# Altium footprint library PcbLib_Spectrum_Analyzer.PcbLib: 18 footprints (part 1 of 2)
Each footprint in its own frame and in the unit in brackets; x right, y up, seen from the top. Pads: shape width x height; smd on the part's side, far side on the other; paste and mask are expansions set on the pad; w line width, h text height; cw(c..) or ccw(c..) is an arc to the next point about the centre after c.
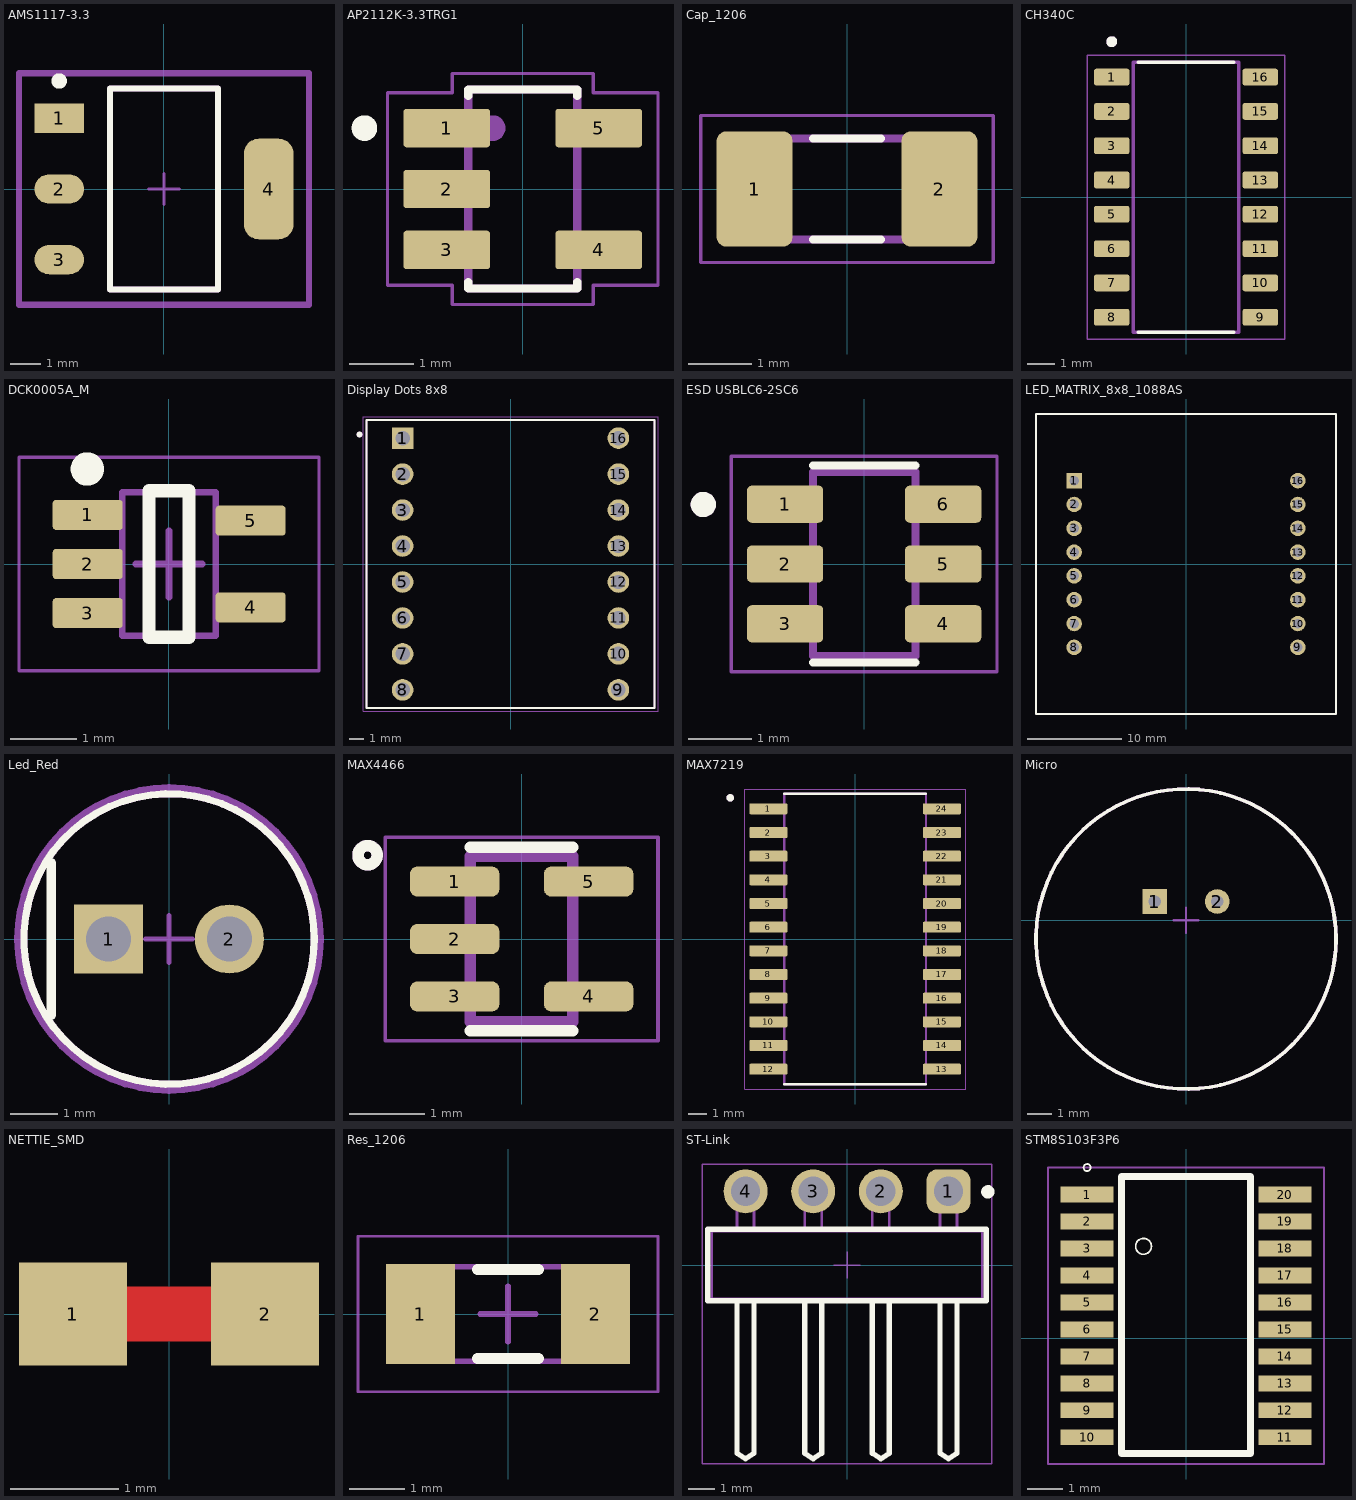
[diagram p0: the footprints below, top view; thin cyan lines are the x and y axes]

## AMS1117-3.3 [mm]
pads (4):
  rect 1.604x0.952 smd paste+0 mask+0: 1(-3.395,2.29)
  rrect100% 1.604x0.952 smd paste+0 mask+0: 2(-3.395,0) 3(-3.395,-2.29)
  rrect59% 1.604x3.262 smd paste+0 mask+0: 4(3.395,0)
Top Overlay:
  circle w0.25: c-3.395,3.5 r0.125
  lines w0.2: -1.753,-3.253 1.753,-3.253 1.753,3.253 -1.753,3.253 -1.753,-3.253
Top 3D Body:
  lines w0.2: -1.753,-3.253 1.753,-3.253 1.753,3.253 -1.753,3.253 -1.753,-3.253
Board:
  lines w0.2: -4.697,-3.752 4.697,-3.752 4.697,3.752 -4.697,3.752 -4.697,-3.752
Top Assembly:
  lines w0.2: -4.697,-3.752 4.697,-3.752 4.697,3.752 -4.697,3.752 -4.697,-3.752
  text ".Designator" at 0,0.188 h1
Top Component Center:
  lines w0.1: -0.5,0 0.5,0 ; 0,-0.5 0,0.5
3D body "IC_Advanced_Monolithic_Systems_AMS1117-3_3_eec.STEP": height 0.25, standoff 0, extent -4.697,-3.752 4.697,3.752

## AP2112K-3.3TRG1 [mm]
pads (5):
  rrect15% 1.35x0.6 smd: 1(-1.185,0.95) 2(-1.185,0) 3(-1.185,-0.95) 4(1.185,-0.95) 5(1.185,0.95)
Top Overlay:
  circle w0.2: c-2.469,0.95 r0.1
  lines w0.127: -0.85,-1.45 -0.85,-1.55 0.85,-1.55 0.85,-1.45 ; -0.85,1.45 -0.85,1.55 0.85,1.55 0.85,1.45
Mechanical 13:
  circle w0.2: c-0.469,0.95 r0.1
  lines w0.127: -0.85,-1.55 0.85,-1.55 0.85,1.55 -0.85,1.55 -0.85,-1.55
Mechanical 15:
  lines w0.05: -2.11,-1.5 -2.11,1.5 -1.1,1.5 -1.1,1.8 1.1,1.8 1.1,1.5 2.11,1.5 2.11,-1.5 1.1,-1.5 1.1,-1.8 -1.1,-1.8 -1.1,-1.5 -2.11,-1.5
3D body "step_temp.STEP": height 1.4, standoff 0, extent -1.5,-1.4 1.5,1.4

## Cap_1206 [mm]
pads (2):
  rrect25% 1.2x1.82 smd: 1(-1.46,0) 2(1.46,0)
Top Overlay:
  lines w0.127: -0.54,-0.8 0.54,-0.8 ; -0.54,0.8 0.54,0.8
Mechanical 13:
  lines w0.127: -1.6,-0.8 1.6,-0.8 1.6,0.8 -1.6,0.8 -1.6,-0.8
Mechanical 15:
  lines w0.05: -2.31,-1.16 2.31,-1.16 2.31,1.16 -2.31,1.16 -2.31,-1.16
3D body "step_temp.STEP": height 1.8, standoff 0, extent -1.6,-0.8 1.6,0.8

## CH340C [mm]
pads (16):
  rrect25% 1.31x0.62 smd: 1(-2.75,4.445) 2(-2.75,3.175) 3(-2.75,1.905) 4(-2.75,0.635) 5(-2.75,-0.635) 6(-2.75,-1.905) 7(-2.75,-3.175) 8(-2.75,-4.445) 9(2.75,-4.445) 10(2.75,-3.175) 11(2.75,-1.905) 12(2.75,-0.635) 13(2.75,0.635) 14(2.75,1.905) 15(2.75,3.175) 16(2.75,4.445)
Top Overlay:
  circle w0.2: c-2.75,5.755 r0.1
  lines w0.127: -1.775,-5 1.775,-5 -1.775,-5 ; -1.775,5 1.775,5 -1.775,5
Mechanical 13:
  circle w0.2: c-2.75,5.755 r0.1
  lines w0.127: -1.95,-5 -1.95,5 1.95,5 1.95,-5 -1.95,-5
Mechanical 15:
  lines w0.05: -3.655,-5.25 3.655,-5.25 3.655,5.25 -3.655,5.25 -3.655,-5.25
3D body "step_temp.STEP": height 1.8, standoff 0, extent -3,-5 3,5

## DCK0005A_M [mm] "SOT23, 5-Leads, Body 2.15x1.4mm, Pitch 0.65mm, IPC Low Density"
height 1.1
pads (5):
  rrect22% 1.05x0.45 smd: 1(-1.219,0.737) 2(-1.219,0) 3(-1.219,-0.737) 4(1.225,-0.65) 5(1.225,0.65)
Top Overlay:
  circle w0.25: c-1.225,1.425 r0.125
  lines w0.2: -0.3,-1.1 0.3,-1.1 0.3,1.1 -0.3,1.1 -0.3,-1.1
Mechanical 1:
  text ".Designator" at -0.508,-0.127 h0.3
Mechanical 13:
  lines w0.1: -0.7,-1.075 -0.7,1.075 0.7,1.075 0.7,-1.075 -0.7,-1.075
Mechanical 15:
  lines w0.05: -2.25,-1.6 -2.25,1.6 2.25,1.6 2.25,-1.6 -2.25,-1.6
  lines w0.1: -0.5,0 0.5,0 ; 0,-0.5 0,0.5
3D body "DCK0005AakaMAA05A.stp": height 0.94, standoff -0.01, extent -1.14,-1 1.14,1

## Display Dots 8x8 [mm]
pads (16):
  rect 1.5x1.5 / inner round 1.5 / far side rect 1.5x1.5 hole 1: 1(-7.5,8.75)
  round 1.5 hole 1: 2(-7.5,6.25) 3(-7.5,3.75) 4(-7.5,1.25) 5(-7.5,-1.25) 6(-7.5,-3.75) 7(-7.5,-6.25) 8(-7.5,-8.75) 9(7.5,-8.75) 10(7.5,-6.25) 11(7.5,-3.75) 12(7.5,-1.25) 13(7.5,1.25) 14(7.5,3.75) 15(7.5,6.25) 16(7.5,8.75)
Top Overlay:
  circle w0.2: c-10.5,9 r0.1
  lines w0.127: -10,-10 10,-10 10,10 -10,10 -10,-10
Mechanical 13:
  circle w0.2: c-10.5,9 r0.1
  lines w0.127: -10,-10 10,-10 10,10 -10,10 -10,-10
Mechanical 15:
  lines w0.05: -10.25,-10.25 10.25,-10.25 10.25,10.25 -10.25,10.25 -10.25,-10.25
3D body "step_temp.STEP": height 6, standoff -4.5, extent -10,-10 10,10

## ESD USBLC6-2SC6 [mm]
pads (6):
  rrect25% 1.21x0.59 smd: 1(-1.255,0.95) 2(-1.255,0) 3(-1.255,-0.95) 4(1.255,-0.95) 5(1.255,0) 6(1.255,0.95)
Top Overlay:
  circle w0.2: c-2.555,0.945 r0.1
  lines w0.127: -0.813,-1.565 0.813,-1.565 ; -0.813,1.565 0.813,1.565
Mechanical 13:
  circle w0.2: c-2.555,0.945 r0.1
  lines w0.127: -0.813,-1.462 -0.813,1.462 0.813,1.462 0.813,-1.462 -0.813,-1.462
Mechanical 15:
  lines w0.05: -2.11,-1.713 2.11,-1.713 2.11,1.713 -2.11,1.713 -2.11,-1.713
3D body "step_temp.STEP": height 0.4, standoff -1.05, extent -1.4,-1.462 1.4,1.462

## LED_MATRIX_8x8_1088AS [mil]
pads (16):
  rect 65x65 hole 40: 1(-470,350)
  round 65 hole 40: 2(-470,250) 3(-470,150) 4(-470,50) 5(-470,-50) 6(-470,-150) 7(-470,-250) 8(-470,-350) 9(470,-350) 10(470,-250) 11(470,-150) 12(470,-50) 13(470,50) 14(470,150) 15(470,250) 16(470,350)
Top Overlay:
  lines w10: -630,-630 630,-630 630,630 -630,630 -630,-630
3D body "TOPLITE 1088AS.STEP": height 314.96, standoff -157.48, extent -630,-629.84 629.84,630

## Led_Red [mm]
pads (2):
  rect 1.45x1.45 hole 0.95 paste-2539.97 mask+0: 1(-1.27,0)
  round 1.45 hole 0.95 paste-2539.97 mask+0: 2(1.27,0)
Top Overlay:
  circle w0.15: c0,0 r3.05
  lines w0.2: -2.475,-1.6 -2.475,1.6
Top 3D Body:
  circle w0.15: c0,0 r3.05
Board:
  lines w0.2: -3.15,0 cw(c0,0) 3.15,0 cw(c0,0) -3.15,0
Top Assembly:
  text ".Designator" at 0,0.188 h1
Top Component Center:
  lines w0.1: -0.5,0 0.5,0 ; 0,-0.5 0,0.5
3D body "Diode_Broadcom_HLMP-4700_eec.STEP": height 0.25, standoff 0, extent -3.15,-3.15 3.15,3.15

## MAX4466 [mm]
pads (5):
  rrect50% 1.19x0.4 smd: 1(-0.889,0.762) 2(-0.889,0) 3(-0.889,-0.762) 4(0.889,-0.762) 5(0.889,0.762)
Top Overlay:
  lines w0.152: -0.68,-1.219 0.68,-1.219 ; -0.68,1.219 0.68,1.219 ; -2.044,0.985 ccw(c-2.044,1.112) -2.044,1.239 ccw(c-2.044,1.112) -2.044,0.985
Mechanical 13:
  lines w0.152: -2.044,0.985 ccw(c-2.044,1.112) -2.044,1.239 ccw(c-2.044,1.112) -2.044,0.985 ; -0.68,-1.1 0.68,-1.1 0.68,1.1 -0.68,1.1 -0.68,-1.1
Mechanical 15:
  lines w0.05: -1.81,-1.35 -1.81,1.35 -0.93,1.35 0.93,1.35 1.81,1.35 1.81,-1.35 0.93,-1.35 -0.93,-1.35 -1.81,-1.35
3D body "step_temp.STEP": height 1.1, standoff 0, extent -1.1,-1 1.1,1

## MAX7219 [mm]
pads (24):
  rrect25% 2.05x0.59 smd: 1(-4.655,6.985) 2(-4.655,5.715) 3(-4.655,4.445) 4(-4.655,3.175) 5(-4.655,1.905) 6(-4.655,0.635) 7(-4.655,-0.635) 8(-4.655,-1.905) 9(-4.655,-3.175) 10(-4.655,-4.445) 11(-4.655,-5.715) 12(-4.655,-6.985) 13(4.655,-6.985) 14(4.655,-5.715) 15(4.655,-4.445) 16(4.655,-3.175) 17(4.655,-1.905) 18(4.655,-0.635) 19(4.655,0.635) 20(4.655,1.905) 21(4.655,3.175) 22(4.655,4.445) 23(4.655,5.715) 24(4.655,6.985)
Top Overlay:
  circle w0.2: c-6.705,7.575 r0.1
  lines w0.127: -3.8,-7.8 3.8,-7.8 ; -3.8,7.8 3.8,7.8
Mechanical 13:
  circle w0.2: c-6.705,7.575 r0.1
  lines w0.127: -3.8,-7.8 -3.8,7.8 3.8,7.8 3.8,-7.8 -3.8,-7.8
Mechanical 15:
  lines w0.05: -5.93,-8.05 -5.93,8.05 5.93,8.05 5.93,-8.05 -5.93,-8.05
3D body "step_temp.STEP": height 2.65, standoff 0, extent -5.162,-7.7 5.162,7.7

## Micro [mm]
pads (2):
  rect 1x1 hole 0.5 paste-2539.97 mask+0: 1(-1.27,0.762)
  round 1 hole 0.5 paste-2539.97 mask+0: 2(1.27,0.762)
Top Overlay:
  circle w0.15: c0,-0.762 r6.096
Top 3D Body:
  circle w0.15: c0,-0.762 r6.096
Top Assembly:
  text ".Designator" at 0,-0.001 h1
Top Component Center:
  lines w0.1: -0.5,0 0.5,0 ; 0,-0.5 0,0.5
3D body "electret mic 9.6x5x2.54 v5.step": height 5.18, standoff -2.55, extent -4.85,-5.739 4.85,3.961

## NETTIE_SMD [mm]
pads (2):
  rect 1x0.952 smd paste+0 mask+0: 1(-0.889,0) 2(0.889,0)
Top Layer:
  rectangle: -0.508,-0.254 0.508,0.254

## Res_1206 [mm] "Chip Resistor, 2-Leads, Body 3,20x1,60mm, IPC Low Density"
height 0.65
pads (2):
  rect 1.25x1.8 smd: 1(-1.575,0) 2(1.575,0)
Top Overlay:
  lines w0.2: -0.55,-0.8 0.55,-0.8 ; -0.55,0.8 0.55,0.8
Mechanical 13:
  lines w0.1: -1.65,-0.85 -1.65,0.85 1.65,0.85 1.65,-0.85 -1.65,-0.85
Mechanical 15:
  lines w0.05: -2.7,-1.4 -2.7,1.4 2.7,1.4 2.7,-1.4 -2.7,-1.4
  lines w0.1: -0.5,0 0.5,0 ; 0,-0.5 0,0.5
3D body "Res_1206.step": height 0.65, standoff 0, extent -1.65,-0.85 1.65,0.85

## ST-Link [mm]
pads (4):
  rrect50% 1.65x1.65 hole 1.1: 1(3.81,2.77)
  round 1.65 hole 1.1: 2(1.27,2.77) 3(-1.27,2.77) 4(-3.81,2.77)
Top Overlay:
  circle w0.25: c5.29,2.75 r0.125
  lines w0.2: -4.13,-1.345 -4.13,-7.07 -3.81,-7.27 -3.49,-7.07 -3.49,-1.345 ; -1.59,-1.345 -1.59,-7.07 -1.27,-7.27 -0.95,-7.07 -0.95,-1.345 ; 0.95,-1.345 0.95,-7.07 1.27,-7.27 1.59,-7.07 1.59,-1.345 ; 3.49,-1.345 3.49,-7.07 3.81,-7.27 4.13,-7.07 4.13,-1.345 ; -5.23,-1.345 5.23,-1.345 5.23,1.345 -5.23,1.345 -5.23,-1.345
Top Designator:
  lines w0.05: -5.43,-7.47 5.43,-7.47 5.43,3.795 -5.43,3.795 -5.43,-7.47
  text ".Designator" at -7.498,-0.5 h1.5
Top Component Outline:
  lines w0.1: -4.13,-1.27 -4.13,-7.07 -3.81,-7.27 -3.49,-7.07 -3.49,-1.27 ; -4.13,1.27 -4.13,3.09 -3.49,3.09 -3.49,1.27 ; -1.59,-1.27 -1.59,-7.07 -1.27,-7.27 -0.95,-7.07 -0.95,-1.27 ; -1.59,1.27 -1.59,3.09 -0.95,3.09 -0.95,1.27 ; 0.95,-1.27 0.95,-7.07 1.27,-7.27 1.59,-7.07 1.59,-1.27 ; 0.95,1.27 0.95,3.09 1.59,3.09 1.59,1.27 ; 3.49,-1.27 3.49,-7.07 3.81,-7.27 4.13,-7.07 4.13,-1.27 ; 3.49,1.27 3.49,3.09 4.13,3.09 4.13,1.27 ; -5.08,-1.27 -5.08,1.27 5.08,1.27 5.08,-1.27 -5.08,-1.27
Bottom Courtyard:
  lines w0.05: -0.5,0 0.5,0 ; 0,-0.5 0,0.5

## STM8S103F3P6 [mm]
pads (20):
  rect 1.5x0.45 smd: 1(-2.794,4.064) 2(-2.794,3.302) 3(-2.794,2.54) 4(-2.794,1.778) 5(-2.794,1.016) 6(-2.794,0.254) 7(-2.794,-0.508) 8(-2.794,-1.27) 9(-2.794,-2.032) 10(-2.794,-2.794) 11(2.794,-2.794) 12(2.794,-2.032) 13(2.794,-1.27) 14(2.794,-0.508) 15(2.794,0.254) 16(2.794,1.016) 17(2.794,1.778) 18(2.794,2.54) 19(2.794,3.302) 20(2.794,4.064)
Top Overlay:
  circle w0.05: c-1.2,2.6 r0.224
  circle w0.05: c-1.2,2.6 r0.224
  circle w0.05: c-2.794,4.826 r0.1
  lines w0.2: -1.825,-3.25 1.825,-3.25 1.825,4.572 -1.825,4.572 -1.825,-3.25
Mechanical 15:
  lines w0.05: -3.9,-3.55 -3.9,4.826 -0.21,4.826 0.21,4.826 3.9,4.826 3.9,-3.55 -3.9,-3.55
3D body: height 0.25, standoff 0, extent -3.2,-3.25 3.2,4.572